# Altium footprint library FP-SOD323-CA-IPC_A.PcbLib: 1 footprints
Each footprint in its own frame and in the unit in brackets; x right, y up, seen from the top. Pads: shape width x height; smd on the part's side, far side on the other; paste and mask are expansions set on the pad; w line width, h text height; cw(c..) or ccw(c..) is an arc to the next point about the centre after c.
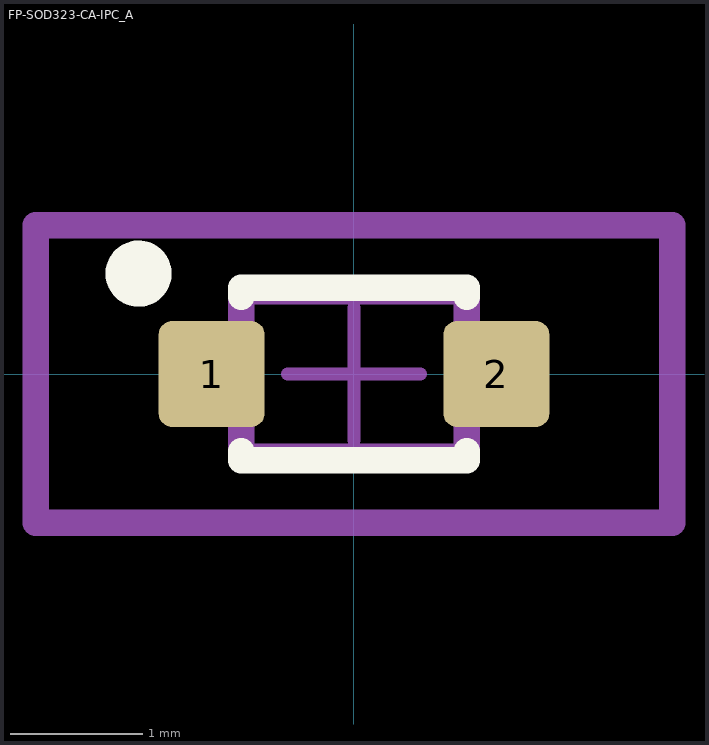
[diagram p0: the footprint, top view; thin cyan lines are the x and y axes]

## FP-SOD323-CA-IPC_A [mm]
pads (2):
  rrect25% 0.8x0.8 smd paste+0 mask+0: 1(-1.075,0) 2(1.075,0)
Top Overlay:
  circle w0.25: c-1.627,0.758 r0.125
  lines w0.2: -0.85,-0.585 -0.85,-0.65 0.85,-0.65 0.85,-0.585 ; -0.85,0.585 -0.85,0.65 0.85,0.65 0.85,0.585
Top Assembly:
  lines w0.2: -2.403,-1.125 -2.403,1.125 2.403,1.125 2.403,-1.125 -2.403,-1.125
  text ".Designator" at 0,0.188 h1
Top 3D Body:
  lines w0.2: -0.85,-0.625 -0.85,0.625 0.85,0.625 0.85,-0.625 -0.85,-0.625
Top Courtyard:
  lines w0.2: -2.403,-1.125 -2.403,1.125 2.403,1.125 2.403,-1.125 -2.403,-1.125
Top Component Center:
  lines w0.1: -0.5,0 0.5,0 ; 0,-0.5 0,0.5
3D body "Diode_Nexperia_PESD5V0S1BA_115_eec.STEP": height 0.25, standoff 0, extent -2.403,-1.125 2.403,1.125